# EAGLE library part TLC5944PWPR (library Smile_Shade)
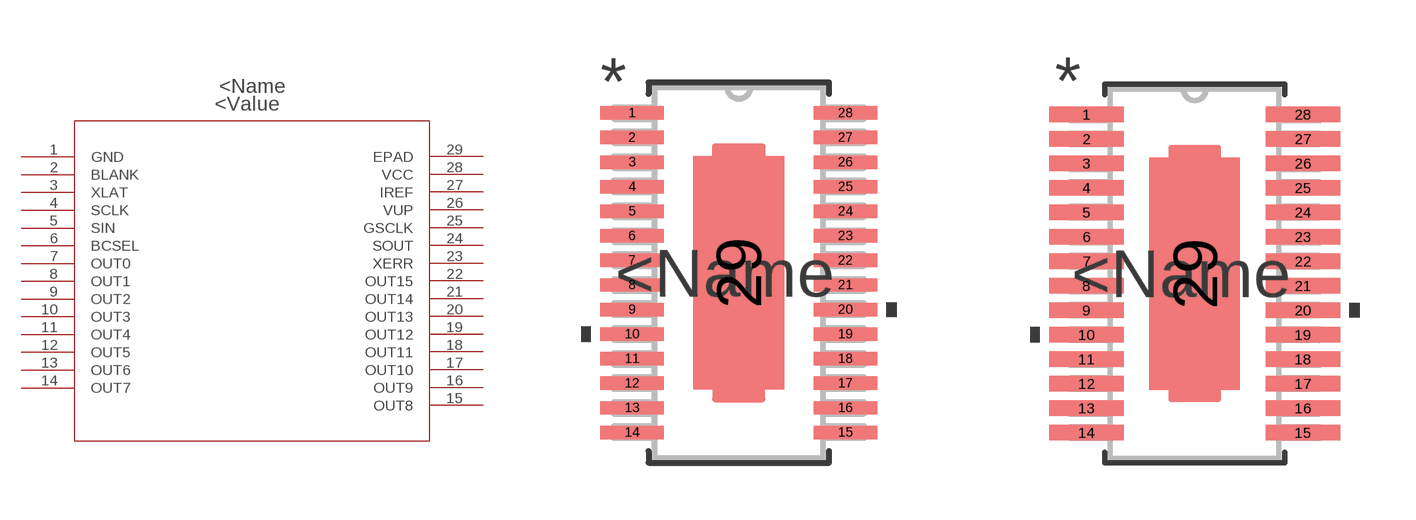
[diagram p6: symbol with the pads of PWP28_6P17X2P4; footprints PWP28_6P17X2P4, PWP28_6P17X2P4-M]

Designator prefix -

## TLC5944PWPR (3D_LIBRARY_NAME: TI_AllParts_20121225; COPYRIGHT: Copyright C 2015 Accelerated Designs. All rights reserved; DATASHEETURL: httpwww.ti.comlitgpnTLC5944; DESCRIPTION: 16Channel 12Bit PWM LED Driver with 6Bit Dot Correction and PreCharge FET; FAMILY_NAME: LED DRIVER; GENERIC_PART_NUMBER: TLC5944; INDUSTRY_STD_PKG_TYPE: HTSSOP; MANUFACTURER: Texas Instruments; MANUFACTURER_PART_NUMBER: TLC5944PWPR; PACKAGE_DESIGNATOR: PWP; PIN_COUNT: 28; VENDOR: Texas Instruments)  [PWP28_6P17X2P4]
1  GND  pwr
2  BLANK  in
3  XLAT  in
4  SCLK  in
5  SIN  in
6  BCSEL  in
7  OUT0  out
8  OUT1  out
9  OUT2  out
10  OUT3  out
11  OUT4  out
12  OUT5  out
13  OUT6  out
14  OUT7  out
15  OUT8  out
16  OUT9  out
17  OUT10  out
18  OUT11  out
19  OUT12  out
20  OUT13  out
21  OUT14  out
22  OUT15  out
23  XERR  out
24  SOUT  out
25  GSCLK  in
26  VUP  pwr
27  IREF
28  VCC  pwr
29  EPAD  pas

## TLC5944PWPRPWP28_6P17X2P4-M (3D_LIBRARY_NAME: TI_AllParts_20121225; COPYRIGHT: Copyright C 2015 Accelerated Designs. All rights reserved; DATASHEETURL: httpwww.ti.comlitgpnTLC5944; DESCRIPTION: 16Channel 12Bit PWM LED Driver with 6Bit Dot Correction and PreCharge FET; FAMILY_NAME: LED DRIVER; GENERIC_PART_NUMBER: TLC5944; INDUSTRY_STD_PKG_TYPE: HTSSOP; MANUFACTURER: Texas Instruments; MANUFACTURER_PART_NUMBER: TLC5944PWPR; PACKAGE_DESIGNATOR: PWP; PIN_COUNT: 28; VENDOR: Texas Instruments)  [PWP28_6P17X2P4-M]
Pads as for PWP28_6P17X2P4

## TLC5944PWPRPWP28_6P17X2P4-L (3D_LIBRARY_NAME: TI_AllParts_20121225; COPYRIGHT: Copyright C 2015 Accelerated Designs. All rights reserved; DATASHEETURL: httpwww.ti.comlitgpnTLC5944; DESCRIPTION: 16Channel 12Bit PWM LED Driver with 6Bit Dot Correction and PreCharge FET; FAMILY_NAME: LED DRIVER; GENERIC_PART_NUMBER: TLC5944; INDUSTRY_STD_PKG_TYPE: HTSSOP; MANUFACTURER: Texas Instruments; MANUFACTURER_PART_NUMBER: TLC5944PWPR; PACKAGE_DESIGNATOR: PWP; PIN_COUNT: 28; VENDOR: Texas Instruments)  [PWP28_6P17X2P4-L]
Pads as for PWP28_6P17X2P4

## Footprint PWP28_6P17X2P4 (pad centres in mm)
smd 1.676 x 0.356: 1 -2.819,4.225; 2 -2.819,3.575; 3 -2.819,2.925; 4 -2.819,2.275; 5 -2.819,1.625; 6 -2.819,0.975; 7 -2.819,0.325; 8 -2.819,-0.325; 9 -2.819,-0.975; 10 -2.819,-1.625; 11 -2.819,-2.275; 12 -2.819,-2.925; 13 -2.819,-3.575; 14 -2.819,-4.225; 15 2.819,-4.225; 16 2.819,-3.575; 17 2.819,-2.925; 18 2.819,-2.275; 19 2.819,-1.625; 20 2.819,-0.975; 21 2.819,-0.325; 22 2.819,0.325; 23 2.819,0.975; 24 2.819,1.625; 25 2.819,2.275; 26 2.819,2.925; 27 2.819,3.575; 28 2.819,4.225
smd 2.4 x 6.17: 29 0,0

## Footprint PWP28_6P17X2P4-M (pad centres in mm)
smd 1.981 x 0.406: 1 -2.87,4.225; 2 -2.87,3.575; 3 -2.87,2.925; 4 -2.87,2.275; 5 -2.87,1.625; 6 -2.87,0.975; 7 -2.87,0.325; 8 -2.87,-0.325; 9 -2.87,-0.975; 10 -2.87,-1.625; 11 -2.87,-2.275; 12 -2.87,-2.925; 13 -2.87,-3.575; 14 -2.87,-4.225; 15 2.87,-4.225; 16 2.87,-3.575; 17 2.87,-2.925; 18 2.87,-2.275; 19 2.87,-1.625; 20 2.87,-0.975; 21 2.87,-0.325; 22 2.87,0.325; 23 2.87,0.975; 24 2.87,1.625; 25 2.87,2.275; 26 2.87,2.925; 27 2.87,3.575; 28 2.87,4.225
smd 2.4 x 6.17: 29 0,0

## Footprint PWP28_6P17X2P4-L (pad centres in mm)
smd 1.372 x 0.305: 1 -2.769,4.225; 2 -2.769,3.575; 3 -2.769,2.925; 4 -2.769,2.275; 5 -2.769,1.625; 6 -2.769,0.975; 7 -2.769,0.325; 8 -2.769,-0.325; 9 -2.769,-0.975; 10 -2.769,-1.625; 11 -2.769,-2.275; 12 -2.769,-2.925; 13 -2.769,-3.575; 14 -2.769,-4.225; 15 2.769,-4.225; 16 2.769,-3.575; 17 2.769,-2.925; 18 2.769,-2.275; 19 2.769,-1.625; 20 2.769,-0.975; 21 2.769,-0.325; 22 2.769,0.325; 23 2.769,0.975; 24 2.769,1.625; 25 2.769,2.275; 26 2.769,2.925; 27 2.769,3.575; 28 2.769,4.225
smd 2.4 x 6.17: 29 0,0